# Altium footprint library 104-SOIC.PcbLib: 2 footprints
Each footprint in its own frame and in the unit in brackets; x right, y up, seen from the top. Pads: shape width x height; smd on the part's side, far side on the other; paste and mask are expansions set on the pad; w line width, h text height; cw(c..) or ccw(c..) is an arc to the next point about the centre after c.
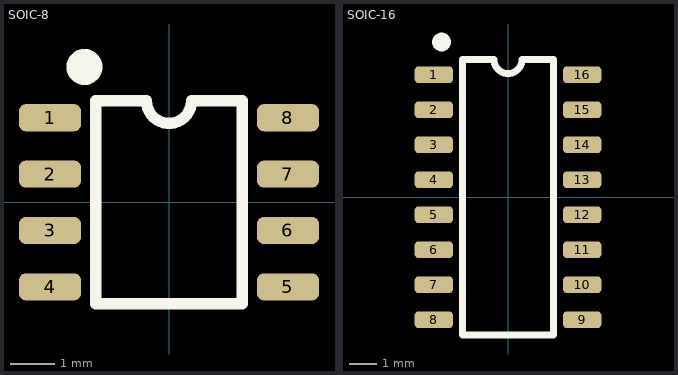
[diagram p0: the footprints below, top view; thin cyan lines are the x and y axes]

## SOIC-8 [mm] "SOIC-8/L=6.86mm/W=4.57mm/Pin=1.27mm"
height 1.75
pads (8):
  rrect50% 1.397x0.61 smd: 1(-2.68,1.905) 2(-2.68,0.635) 3(-2.68,-0.635) 4(-2.68,-1.905) 5(2.68,-1.905) 6(2.68,-0.635) 7(2.68,0.635) 8(2.68,1.905)
Top Overlay:
  circle w0.5: c-1.905,3.048 r0.155
  lines w0.254: -1.651,-2.286 -1.651,2.286 -0.508,2.286 ccw(c0,2.286) 0.508,2.286 1.651,2.286 1.651,-2.286 -1.651,-2.286
3D body "SOIC-8.step": height 1.69, standoff -0.03, extent -3,-2.408 3,2.407

## SOIC-16 [mil] "SOIC-8/L=6.86mm/W=10mm/Pin=1.27mm"
height 68.9
pads (16):
  rrect50% 55x24.02 smd: 1(-105.95,175)
  rrect50% 55x24 smd: 2(-105.95,125) 3(-105.95,75) 4(-105.95,25) 5(-105.95,-25) 6(-105.95,-75) 7(-105.95,-125) 8(-105.95,-175) 9(105.95,-175) 10(105.95,-125) 11(105.95,-75) 12(105.95,-25) 13(105.95,25) 14(105.95,75) 15(105.95,125) 16(105.95,175)
Top Overlay:
  circle w18: c-95,221.81 r4.3
  lines w10: -65,-196.85 -65,196.85 -20,196.85 ccw(c0,196.85) 0,176.85 ccw(c0,196.85) 20,196.85 65,196.85 65,-196.85 -65,-196.85
3D body "SOIC-16.step": height 73.81, standoff -1.01, extent -118.23,-194.88 118.23,194.88